# Altium schematic symbol library diode.SchLib: 129 symbols
Pins are listed as number, name and electrical type; pins without a type are passive.

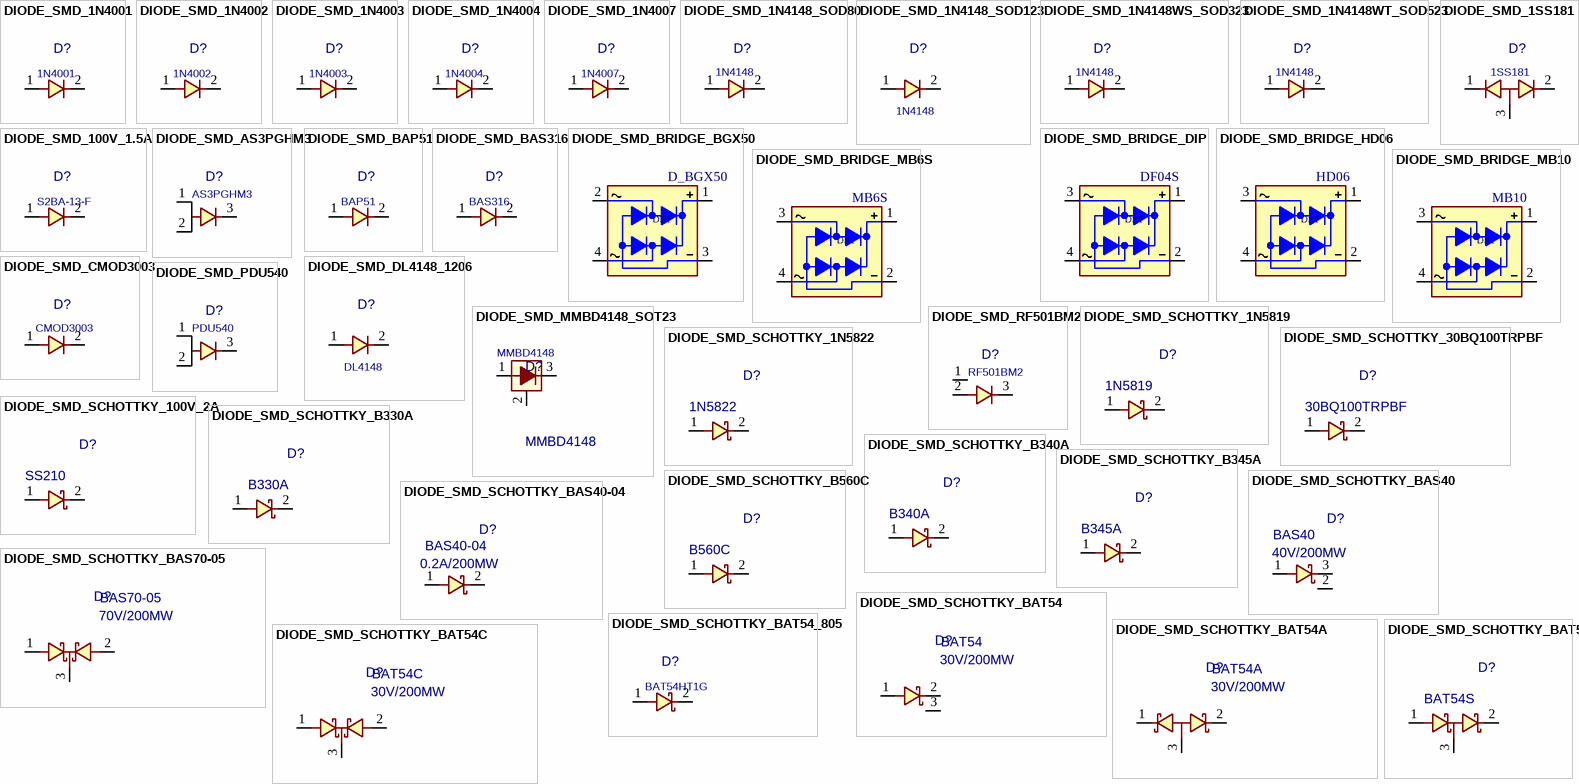
[diagram p0: symbols DIODE_SMD_1N4001 to DIODE_SMD_SCHOTTKY_BAT54S]

## DIODE_SMD_1N4001
designator D?, comment 1N4001
DIODE, GENERAL PURPOSE, 50V/1A; DESC: DESCRIPTION; PARAM: 50V VRRM; PARAM2: 1A; MANF: MANF; ASSEMBLY: ASSEMBLY; PRICE: PRICE; MANF_P#: 1N4001; VALUE: 1N4001
footprint D_SMA (SMA Molded Diode, 2-Leads, Body 4.3x2.7mm)
pins: 1, 2

## DIODE_SMD_1N4002
designator D?, comment 1N4002
DIODE, GENERAL PURPOSE, 100V/1A; DESC: DESCRIPTION; PARAM: 100V VRRM; PARAM2: 1A; MANF: MANF; ASSEMBLY: ASSEMBLY; PRICE: PRICE; MANF_P#: 1N4002; VALUE: 1N4002
footprint D_SMA (SMA Molded Diode, 2-Leads, Body 4.3x2.7mm)
pins: 1, 2

## DIODE_SMD_1N4003
designator D?, comment 1N4003
DIODE, GENERAL PURPOSE, 200V/1A; DESC: DESCRIPTION; PARAM: 200V VRRM; PARAM2: 1A; MANF: MANF; ASSEMBLY: ASSEMBLY; PRICE: PRICE; MANF_P#: 1N4003; VALUE: 1N4003
footprint D_SMA (SMA Molded Diode, 2-Leads, Body 4.3x2.7mm)
pins: 1, 2

## DIODE_SMD_1N4004
designator D?, comment 1N4004
DIODE, GENERAL PURPOSE, 400V/1A; DESC: DESCRIPTION; PARAM: 400V VRRM; PARAM2: 1A; MANF: MANF; ASSEMBLY: ASSEMBLY; PRICE: PRICE; MANF_P#: 1N4004; VALUE: 1N4004
footprint D_SMA (SMA Molded Diode, 2-Leads, Body 4.3x2.7mm)
pins: 1, 2

## DIODE_SMD_1N4007
designator D?, comment 1N4007
DIODE, GENERAL PURPOSE, 1000V/1A; MANF: Kingtronics; DESC: DESCRIPTION; PARAM: 1000V VRRM; PARAM2: 1A; MANF_P#: M7; ASSEMBLY: ASSEMBLY; PRICE: PRICE; VALUE: 1N4007
footprint D_SMA (SMA Molded Diode, 2-Leads, Body 4.3x2.7mm)
pins: 1, 2

## DIODE_SMD_1N4148_SOD80
designator D?, comment 1N4148
DIODE, FAST SWTICHING, 0.3A, 0.5W; DESC: DESCRIPTION; PARAM: 75V; PARAM2: 300mA, 0.5W; MANF: MANF; ASSEMBLY: ASSEMBLY; PRICE: PRICE; MANF_P#: 1N4148; VALUE: 1N4148
footprint D_SOD80 (SOD-80 MINI-MELF 3.6X1.6mm, LL-34, LL4148)
pins: 1, 2

## DIODE_SMD_1N4148_SOD123
designator D?, comment 1N4148
DIODE, FAST SWTICHING, SMD; DESC: DESCRIPTION; PARAM: 300mA; PARAM2: 100V, 460MW; MANF_P#: 1N4148W; MANF: DIODE; ASSEMBLY: ASSEMBLY; PRICE: PRICE; VALUE: 1N4148
footprint D_SOD123W (PowerDI-123, SOD123, DO-213AA, 1206D)
pins: 1, 2

## DIODE_SMD_1N4148WS_SOD323
designator D?, comment 1N4148
DIODE, FAST SWTICHING, 0.2A; MANF: Diodes; DESC: DESCRIPTION; PARAM: 200~300mA; PARAM2: 75V; MANF_P#: 1N4148WS; ASSEMBLY: ASSEMBLY; PRICE: 0.2$; VALUE: 1N4148
footprint D_SOD323 (DIODE0805, SOD-323, SC-76, DL-35, 0805 similar size)
pins: 1, 2

## DIODE_SMD_1N4148WT_SOD523
designator D?, comment 1N4148
DIODE, FAST SWTICHING, 0.2A; MANF: Diodes, MCC; DESC: DESCRIPTION; PARAM: 200~300mA; PARAM2: 75V; MANF_P#: 1N4148X-TP, 1N4148WT-7, 1N4148WTQ-7; ASSEMBLY: ASSEMBLY; PRICE: 0.2$; VALUE: 1N4148
footprint D_SOD523 (SOD523 SC-79 Molded Diode, 2-Leads, 1.2x0.8mm)
pins: 1, 2

## DIODE_SMD_1SS181
designator D?, comment 1SS181
DIODE, DUAL, HIGH SPEED SWITCHING, 80V, 0.1A; MANF: THOSHIBA; DESC: DESCRIPTION; ASSEMBLY: ASSEMBLY; PRICE: PRICE; PARAM: 80V; PARAM2: 0.1A; MANF_P#: 1SS181; VALUE: 1SS181
footprint SOT23_3 (SOT-23, Micro3, MO-178, TO-236AB, MO-193C, SuperSOT3, SC-59, DSO190_3_300X150)
pins: 1, 2, 3

## DIODE_SMD_100V_1.5A
designator D?, comment S2BA-13-F
DIODE, GENERAL PURPOSE, 100V, 1.5A, SMA; MANF: Diodes; DESC: DESCRIPTION; ASSEMBLY: ASSEMBLY; PRICE: PRICE; PARAM: 100V; PARAM2: 1.5A; MANF_P#: S2BA-13-F; VALUE: S2BA-13-F
footprint D_SMA (SMA Molded Diode, 2-Leads, Body 4.3x2.7mm)
pins: 1, 2

## DIODE_SMD_AS3PGHM3
designator D?, comment AS3PGHM3
DIODE, FAST, 3A, 400V; MANF: VISHAY; DESC: DESCRIPTION; PARAM: 3A, -55~175oC; MANF_P#: AS3PGHM3_A/H; ASSEMBLY: ASSEMBLY; PRICE: 1$; PARAM2: 400V; VALUE: AS3PGHM3
footprint D_SMPC (SMPC TO-277A, Body 6.1x4.6mm)
pins: 1 A1, 2 A2, 3 CATHODE

## DIODE_SMD_BAP51
designator D?, comment BAP51
DIODE, PIN, 50V/0.05A, SOD-323; MANF: NXP; DESC: A5 marking; PARAM: 50V VRRM, 1.1Vf; PARAM2: 0.05A, -65~150oC; MANF_P#: BAP51-03; ASSEMBLY: ASSEMBLY; PRICE: 0.4$; VALUE: BAP51
footprint D0805 (DIODE0805, SOD323 (PHILIPS), SC-76 (JEITA), DL-35)
pins: 1, 2

## DIODE_SMD_BAS316
designator D?, comment BAS316
DIODE, HiSP SW, 100V/0.25A, SOD-323; MANF: Nexperia; DESC: A6 marking; PARAM: 100V VRRM, 1.25Vf; PARAM2: 0.25A, -50~150oC; ASSEMBLY: ASSEMBLY; PRICE: 0.2$; MANF_P#: BAS316; VALUE: BAS316
footprint D0805 (DIODE0805, SOD323 (PHILIPS), SC-76 (JEITA), DL-35)
pins: 1, 2

## DIODE_SMD_BRIDGE_BGX50
designator DB?, comment D_BGX50
DIODE, BRIDGE, SMD, 50V, 140mA,; MANF: Infineon; MANF_P#: BGX50AE6327; PARAM: 50V, 140mA; VALUE: D_BGX50
footprint SOT143_4 (SC-74A , SOT143, TO-253A, DSO190_4_300X150, LAT-3/MMM168, MW-4)
pins: 1 DCOUT+, 2 ACIN1, 3 DCOUT-, 4 ACIN2

## DIODE_SMD_BRIDGE_DIP
designator DB?, comment DF04S
DIODE, BRIDGE,; VALUE: DF04S
footprint DBRG_DIPSMD (BRIDGE RECTIFIER, pitch: 5.08mm, 8X6mm, DB-S, DF005S)
pins: 1 DCOUT+, 2 DCOUT-, 3 ACIN2, 4 ACIN1

## DIODE_SMD_BRIDGE_HD06
designator DB?, comment HD06
DIODE, BRIDGE,; PARAM2: 600v; PARAM: 0.5A; MANF_P#: HD06; VALUE: HD06
footprint DBRG_DIPSMD_MINI (MDB, MBS, TO-269AA, pitch:2.54mm, 4.8x3.8mm)
pins: 1 DCOUT+, 2 DCOUT-, 3 ACIN2, 4 ACIN1

## DIODE_SMD_BRIDGE_MB6S
designator DB?, comment MB6S
DIODE, BRIDGE,; PARAM2: 600v; PARAM: 0.5A; MANF_P#: MB6S; VALUE: MB6S
footprint DBRG_DIPSMD_MINI (MDB, MBS, TO-269AA, pitch:2.54mm, 4.8x3.8mm)
pins: 1 DCOUT+, 2 DCOUT-, 3 ACIN2, 4 ACIN1

## DIODE_SMD_BRIDGE_MB10
designator DB?, comment MB10
DIODE, BRIDGE, SMD; MANF: MCC, DIODES; MANF_P#: MB10F, MB10S; PARAM2: 1000V; PARAM: 0.5A; VALUE: MB10
footprint DBRG_DIPSMD (BRIDGE RECTIFIER, pitch: 5.08mm, 8X6mm, DB-S, DF005S)
pins: 1 DCOUT+, 2 DCOUT-, 3 ACIN2, 4 ACIN1

## DIODE_SMD_CMOD3003
designator D?, comment CMOD3003
DIODE, FAST SWTICHING, 0.6A, 0.25W; MANF: CENTRAL SEMI; DESC: DESCRIPTION; PARAM: 180V; ASSEMBLY: ASSEMBLY; PRICE: PRICE; PARAM2: 0.6A, 0.25W; MANF_P#: CMOD3003; VALUE: CMOD3003
footprint D_SOD523 (SOD523 SC-79 Molded Diode, 2-Leads, 1.2x0.8mm)
pins: 1, 2

## DIODE_SMD_DL4148_1206
designator D?, comment DL4148
DIODE, FAST SWTICHING, SMD; DESC: DESCRIPTION; PARAM: 300mA; PARAM2: 100V, 460MW; MANF: MANF; ASSEMBLY: ASSEMBLY; PRICE: PRICE; MANF_P#: DL4148; VALUE: DL4148
footprint D1206 (SOD123, miniMELF, DO-213AA, MLL34, 320X160D)
pins: 1, 2

## DIODE_SMD_MMBD4148_SOT23
designator D?, comment MMBD4148
DIODE, FAST SWTICHING, SMT; MANF: Diodes, Inc.; PARAM: 75V; DESC: DESCRIPTION; PARAM2: 0.3A; MANF_P#: MMBD4148; ASSEMBLY: ASSEMBLY; PRICE: PRICE; VALUE: MMBD4148
footprint SOT23_3 (SOT-23, Micro3, MO-178, TO-236AB, MO-193C, SuperSOT3, SC-59, DSO190_3_300X150)
pins: 1, 2 NC, 3 CATHODE

## DIODE_SMD_PDU540
designator D?, comment PDU540
DIODE, FAST, 5A, 400V; MANF: DIODES; DESC: DESCRIPTION; PARAM: 5A, -65~175oC; MANF_P#: PDU540-13; ASSEMBLY: ASSEMBLY; PRICE: 1.2$; PARAM2: 400V; VALUE: PDU540
footprint D_SMPC (SMPC TO-277A, Body 6.1x4.6mm)
pins: 1 A1, 2 A2, 3 CATHODE

## DIODE_SMD_RF501BM2
designator D?, comment RF501BM2
DIODE, FAST, 5A, 200V; MANF: ROHM; DESC: DESCRIPTION; PARAM: 5A, -40~150oC; MANF_P#: RF501BM2STL; ASSEMBLY: ASSEMBLY; PRICE: 0.9$; PARAM2: 200V; VALUE: RF501BM2
footprint DPAK_3 (D-PAK (TO-252), 3-Pads, Body 6.2x6.7mm)
pins: 1 NC, 2 A, 3 CATHODE

## DIODE_SMD_SCHOTTKY_1N5819
designator D?, comment 1N5819
DIODE, SCHOTTKY, 40V, 1A; MANF: DIODES; MANF_P#: 1N5819HW-7-F; DESC: DESCRIPTION; ASSEMBLY: ASSEMBLY; PRICE: PRICE; PARAM2: 1A; PARAM: 40V; VALUE: 1N5819
footprint D_SOD123W (1206D, SOD123, miniMELF, DO-213AA, MLL34, 320X160D)
pins: 1, 2

## DIODE_SMD_SCHOTTKY_1N5822
designator D?, comment 1N5822
DIODE, SCHOTTKY, 40V, 3A; MANF: DIODES; DESC: DESCRIPTION; MANF_P#: 1N5822; ASSEMBLY: ASSEMBLY; PRICE: PRICE; PARAM2: 3A; PARAM: 40V; VALUE: 1N5822
footprint D_SMA (SMA Molded Diode, 2-Leads, Body 4.3x2.7mm)
pins: 1, 2

## DIODE_SMD_SCHOTTKY_30BQ100TRPBF
designator D?, comment 30BQ100TRPBF
DIODE, SCHOTTKY, 100V, 3A; MANF: Vishay; DESC: DESCRIPTION; MANF_P#: 30BQ100TRPBF; ASSEMBLY: ASSEMBLY; PRICE: PRICE; PARAM2: 3A; PARAM: 100V; VALUE: 30BQ100TRPBF
footprint D_SMC (SMC, Molded Diode, 7.0x6.0mm)
pins: 1, 2

## DIODE_SMD_SCHOTTKY_100V_2A
designator D?, comment SS210
DIODE, SCHOTTKY, 100V, 2A; MANF: Micro Commercial; MANF_P#: SS210-TP, 10MQ100NPBF; DESC: DESCRIPTION; ASSEMBLY: ASSEMBLY; PRICE: PRICE; PARAM2: 2A; PARAM: 100V; VALUE: SS210
footprint D_SMB (SMB Molded Diode, 2-Leads, Body 4.3x3.5mm)
pins: 1, 2

## DIODE_SMD_SCHOTTKY_B330A
designator D?, comment B330A
DIODE, SCHOTTKY, 30V, 3A; MANF: Diodes; MANF_P#: B330A-13-F; DESC: DESCRIPTION; PARAM2: 30Vr, 0.5Vf; ASSEMBLY: ASSEMBLY; PRICE: 0.46$; PARAM: 3A; VALUE: B330A
footprint D_SMA (SMA Molded Diode, 2-Leads, Body 4.3x2.7mm)
pins: 1, 2

## DIODE_SMD_SCHOTTKY_B340A
designator D?, comment B340A
DIODE, SCHOTTKY, 40V, 3A; MANF: DIODES; DESC: DESCRIPTION; MANF_P#: B340A; ASSEMBLY: ASSEMBLY; PRICE: PRICE; PARAM2: 3A; PARAM: 40V; VALUE: B340A
footprint D_SMA (SMA Molded Diode, 2-Leads, Body 4.3x2.7mm)
pins: 1, 2

## DIODE_SMD_SCHOTTKY_B345A
designator D?, comment B345A
DIODE, SCHOTTKY, 40V, 3A; MANF: DIODES; MANF_P#: B345AE-13; DESC: DESCRIPTION; PARAM2: 45Vrrm, 0.45Vf; PARAM: 3A, -50~150oC; ASSEMBLY: ASSEMBLY; PRICE: 0.35$; VALUE: B345A
footprint D_SMA (SMA Molded Diode, 2-Leads, Body 4.3x2.7mm)
pins: 1, 2

## DIODE_SMD_SCHOTTKY_B560C
designator D?, comment B560C
DIODE, SCHOTTKY, 40V, 3A; MANF: DIODES; MANF_P#: B560C-13-F; DESC: DESCRIPTION; PARAM2: 5A; PARAM: 60V; ASSEMBLY: ASSEMBLY; PRICE: PRICE; VALUE: B560C
footprint D_SMC (SMC, Molded Diode, 7.0x6.0mm)
pins: 1, 2

## DIODE_SMD_SCHOTTKY_BAS40
designator D?, comment PARAM: 40V/200MW  (hidden comment: BAS40)
DIODE, SCHOTTKY, DUAL, 40V, 0.2A; MANF: Diodes; DESC: DESCRIPTION; MANF_P#: BAS40; ASSEMBLY: ASSEMBLY; PRICE: PRICE; PARAM2: 0.2A; VALUE: BAS40
footprint SOT23_3 (SOT-23, Micro3, MO-178, TO-236AB, MO-193C, SuperSOT3, DSO190_3_300X150)
pins: 1, 2, 3

## DIODE_SMD_SCHOTTKY_BAS40-04
designator D?, comment PARAM: 0.2A/200MW  (hidden comment: BAS40-04)
DIODE, SCHOTTKY, 40V, 0.2A; MANF: Diodes; MANF_P#: BAS40-04-TP; DESC: DESCRIPTION; PARAM2: 40V, -55~125oC; ASSEMBLY: ASSEMBLY; PRICE: PRICE; VALUE: BAS40-04
footprint D_SMB (SMB Molded Diode, 2-Leads, Body 4.3x3.5mm)
pins: 1, 2

## DIODE_SMD_SCHOTTKY_BAS70-05
designator D?, comment PARAM: 70V/200MW  (hidden comment: BAS70-05)
DIODE, SCHOTTKY, DUAL, 70V, 0.07A; MANF: Diodes; MANF_P#: BAS70-05-7-F; DESC: DESCRIPTION; ASSEMBLY: ASSEMBLY; PRICE: PRICE; PARAM2: 0.07A; VALUE: BAS70-05
footprint SOT23_3 (SOT-23, Micro3, MO-178, TO-236AB, MO-193C, SuperSOT3, DSO190_3_300X150)
pins: 1, 2, 3

## DIODE_SMD_SCHOTTKY_BAT54
designator D?, comment PARAM: 30V/200MW  (hidden comment: BAT54)
DIODE, SCHOTTKY, 30V, 0.2A; MANF: Diodes; DESC: DESCRIPTION; MANF_P#: BAT54; ASSEMBLY: ASSEMBLY; PRICE: PRICE; PARAM2: 0.2A; VALUE: BAT54
footprint SOT23_3 (SOT-23, Micro3, MO-178, TO-236AB, MO-193C, SuperSOT3, DSO190_3_300X150)
pins: 1, 2, 3

## DIODE_SMD_SCHOTTKY_BAT54_805
designator D?, comment BAT54HT1G
DIODE, SCHOTTKY, 40V, 1A; MANF: Fairchild; DESC: DESCRIPTION; PARAM2: 0.2A; PARAM: 30V; ASSEMBLY: ASSEMBLY; PRICE: PRICE; MANF_P#: BAT54HT1G; VALUE: BAT54HT1G
footprint D0805 (DIODE0805, SOD323 (PHILIPS), SC-76 (JEITA), DL-35)
pins: 1, 2

## DIODE_SMD_SCHOTTKY_BAT54A
designator D?, comment PARAM: 30V/200MW  (hidden comment: BAT54A)
DIODE, SCHOTTKY, DUAL, 30V, 0.2A; MANF: Diodes; DESC: DESCRIPTION; MANF_P#: BAT54A; ASSEMBLY: ASSEMBLY; PRICE: PRICE; PARAM2: 0.2A; VALUE: BAT54A
footprint SOT23_3 (SOT-23, Micro3, MO-178, TO-236AB, MO-193C, SuperSOT3, DSO190_3_300X150)
pins: 1, 2, 3

## DIODE_SMD_SCHOTTKY_BAT54C
designator D?, comment PARAM: 30V/200MW  (hidden comment: BAT54C)
DIODE, SCHOTTKY, DUAL, 30V, 0.2A; MANF: Diodes; MANF_P#: BAT54C-7-F; DESC: DESCRIPTION; ASSEMBLY: ASSEMBLY; PRICE: PRICE; PARAM2: 0.2A; VALUE: BAT54C
footprint SOT23_3 (SOT-23, Micro3, MO-178, TO-236AB, MO-193C, SuperSOT3, DSO190_3_300X150)
pins: 1, 2, 3

## DIODE_SMD_SCHOTTKY_BAT54S
designator D?, comment BAT54S
DIODE, SCHOTTKY, DUAL, 30V, 0.2A; MANF: Diodes, NXP; MANF_P#: BAT54SW; DESC: DESCRIPTION; PARAM: 30V/200MW; ASSEMBLY: ASSEMBLY; PRICE: 0.2$; PARAM2: 0.2A; VALUE: BAT54S
footprint SOT23_3 (SOT-23, Micro3, MO-178, TO-236AB, MO-193C, SuperSOT3, DSO190_3_300X150)
pins: 1, 2, 3

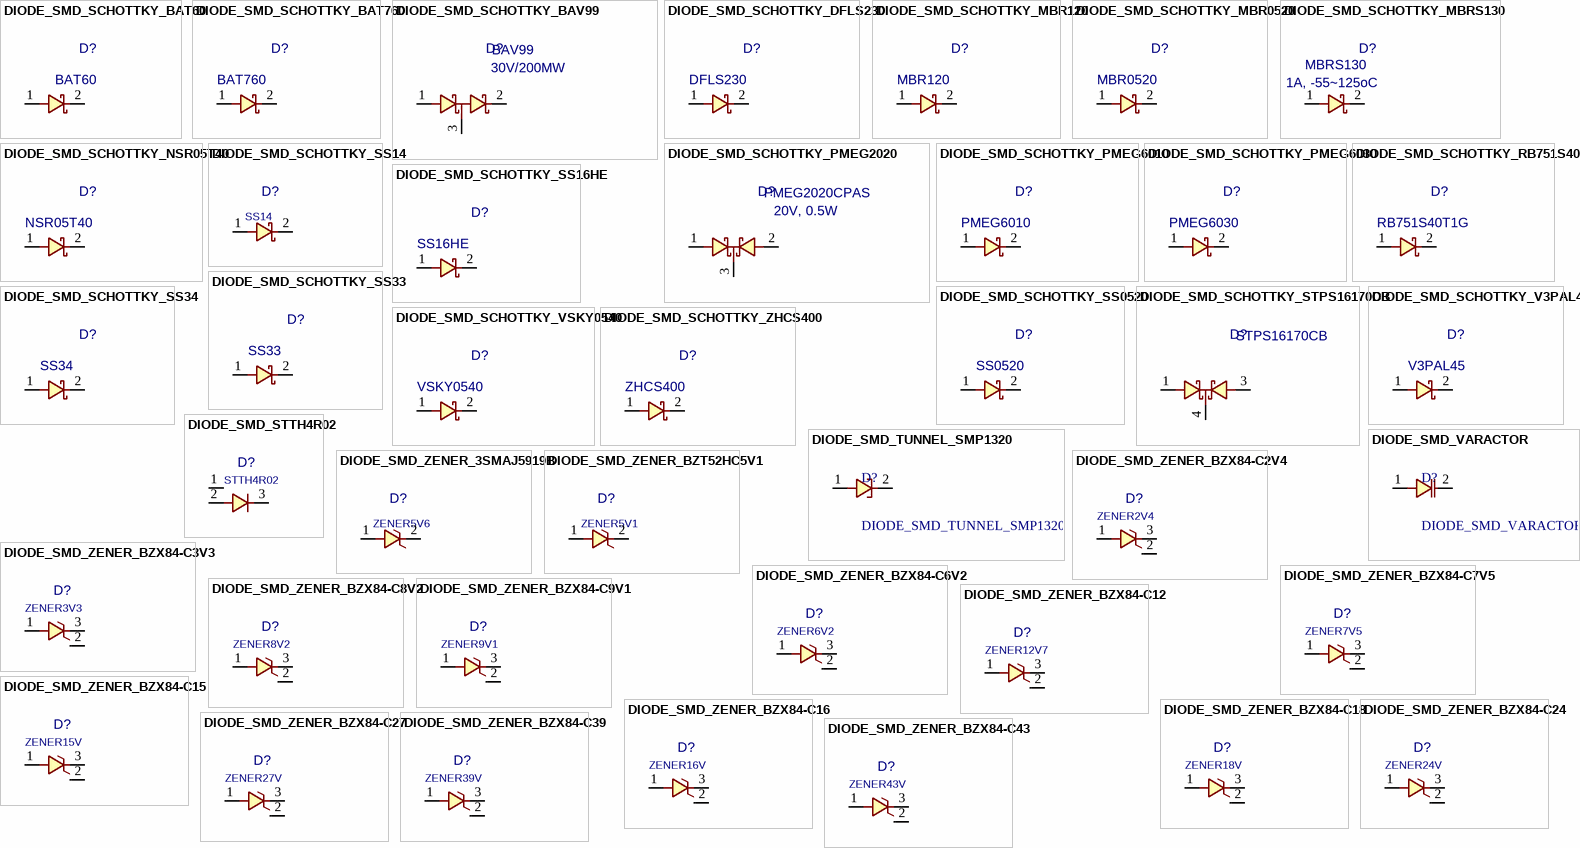
[diagram p1: symbols DIODE_SMD_SCHOTTKY_BAT60 to DIODE_SMD_ZENER_BZX84-C43]

## DIODE_SMD_SCHOTTKY_BAT60
designator D?, comment BAT60
DIODE, SCHOTTKY, 10V, 3A, 0.3Vf; MANF: Infineon; MANF_P#: BAT60AE6327HTSA1; DESC: DESCRIPTION; PARAM2: VFdrop: 0.1V@10mA, 0.22V@1A; PARAM: 3A, 1.35W, -55~85oC; ASSEMBLY: ASSEMBLY; PRICE: 0.4$; VALUE: BAT60
footprint D_SOD323 (DIODE0805, SOD-323, SC-76, DL-35, 0805 similar size)
pins: 1, 2

## DIODE_SMD_SCHOTTKY_BAT760
designator D?, comment BAT760
DIODE, SCHOTTKY, 20V, 1A; MANF: NXP; MANF_P#: BAT760,115; DESC: DESCRIPTION; ASSEMBLY: ASSEMBLY; PRICE: PRICE; PARAM2: 1A; PARAM: 20V; VALUE: BAT760
footprint D_SOD323 (DIODE0805, SOD-323, SC-76, DL-35, 0805 similar size)
pins: 1, 2

## DIODE_SMD_SCHOTTKY_BAV99
designator D?, comment PARAM: 30V/200MW  (hidden comment: BAV99)
DIODE, SCHOTTKY, DUAL, 30V, 0.2A; MANF: Diodes; DESC: DESCRIPTION; MANF_P#: BAV99; ASSEMBLY: ASSEMBLY; PRICE: PRICE; PARAM2: 0.2A; VALUE: BAV99
footprint SOT23_3 (SOT-23, Micro3, MO-178, TO-236AB, MO-193C, SuperSOT3, DSO190_3_300X150)
pins: 1, 2, 3

## DIODE_SMD_SCHOTTKY_DFLS230
designator D?, comment DFLS230
DIODE, SCHOTTKY, 30V, 2A; MANF: DIODES; MANF_P#: DFLS230LQ-7; DESC: DESCRIPTION; PARAM2: 30Vrrm, 0.375Vf; PARAM: 2A, -40~125oC; ASSEMBLY: ASSEMBLY; PRICE: 0.7$; VALUE: DFLS230
footprint D_SOD123W (1206D, SOD123, miniMELF, DO-213AA, MLL34, 320X160D)
pins: 1, 2

## DIODE_SMD_SCHOTTKY_MBR120
designator D?, comment MBR120
DIODE, SCHOTTKY, 20V, 1A; MANF: NXP; MANF_P#: MBR120LSFT1G; DESC: DESCRIPTION; ASSEMBLY: ASSEMBLY; PRICE: PRICE; PARAM2: 1A; PARAM: 20V; VALUE: MBR120
footprint D1206 (SOD123, miniMELF, DO-213AA, MLL34, 320X160D)
pins: 1, 2

## DIODE_SMD_SCHOTTKY_MBR0520
designator D?, comment MBR0520
DIODE, SCHOTTKY, 20V, 0.5A; MANF: ON; MANF_P#: MBR0520LT1G; DESC: DESCRIPTION; ASSEMBLY: ASSEMBLY; PRICE: PRICE; PARAM2: 0.5A; PARAM: 20V; VALUE: MBR0520
footprint D_SOD123W (1206D, SOD123, miniMELF, DO-213AA, MLL34, 320X160D)
pins: 1, 2

## DIODE_SMD_SCHOTTKY_MBRS130
designator D?, comment PARAM: 1A, -55~125oC  (hidden comment: MBRS130)
DIODE, SCHOTTKY, 30V, 1A; MANF: Vishay, Diodes; MANF_P#: MBRS130L; DESC: DESCRIPTION; ASSEMBLY: ASSEMBLY; PRICE: PRICE; PARAM2: 30V; VALUE: MBRS130
footprint D_SMB (SMB Molded Diode, 2-Leads, Body 4.3x3.5mm)
pins: 1, 2

## DIODE_SMD_SCHOTTKY_NSR05T40
designator D?, comment NSR05T40
DIODE, SCHOTTKY, 40V, 0.5A; MANF: ON Semiconductor; MANF_P#: NSR05T40P2T5G; DESC: DESCRIPTION; PARAM2: 40V, 0.58Vf; PARAM: 0.5A, -55~150oC; ASSEMBLY: ASSEMBLY; PRICE: 0.4$; VALUE: NSR05T40
footprint D_SOD923 (SOD-923 2-Leads, Body 0.60x.8mm)
pins: 1, 2

## DIODE_SMD_SCHOTTKY_PMEG2020
designator D?, comment PARAM: 20V, 0.5W  (hidden comment: PMEG2020CPAS)
DIODE, SCHOTTKY, DUAL, 0.4VF, 20V, 2A; MANF: NEXPERIA; DESC: DESCRIPTION; MANF_P#: PMEG2020CPAS; ASSEMBLY: ASSEMBLY; PRICE: PRICE; PARAM2: 2A; VALUE: PMEG2020CPAS
footprint DFN2020_3 (DFN2020D-3, SOT1061D, Body 2X2X0.65mm,)
pins: 1, 2, 3

## DIODE_SMD_SCHOTTKY_PMEG6010
designator D?, comment PMEG6010
DIODE, SCHOTTKY, 60V, 1A; MANF: NEXPERIA; MANF_P#: PMEG6010AESB; DESC: DESCRIPTION; PARAM2: 60Vrrm, 0.6Vf; PARAM: 1A, -65~150oC; ASSEMBLY: ASSEMBLY; PRICE: 0.4$; VALUE: PMEG6010
footprint D1006 (DIODE, CLP1006-2, 1X0.6mm)
pins: 1, 2

## DIODE_SMD_SCHOTTKY_PMEG6030
designator D?, comment PMEG6030
DIODE, SCHOTTKY, 60V, 3A; MANF: NEXPERIA; MANF_P#: PMEG6030EP; DESC: DESCRIPTION; PARAM2: 60Vrrm, 0.4Vf; PARAM: 3A, -65~150oC; ASSEMBLY: ASSEMBLY; PRICE: 0.4$; VALUE: PMEG6030
footprint D_SMA (SMA Molded Diode, 2-Leads, Body 4.3x2.7mm, SOD-128)
pins: 1, 2

## DIODE_SMD_SCHOTTKY_RB751S40
designator D?, comment RB751S40T1G
DIODE, SCHOTTKY, 40V, 0.03A; MANF: ON Semiconductor; DESC: DESCRIPTION; MANF_P#: RB751S40T1G; ASSEMBLY: ASSEMBLY; PRICE: PRICE; PARAM2: 0.03A; PARAM: 40V; VALUE: RB751S40T1G
footprint D_SOD523 (SOD523 SC-79 Molded Diode, 2-Leads, 1.2x0.8mm)
pins: 1, 2

## DIODE_SMD_SCHOTTKY_SS14
designator D?, comment SS14
DIODE, SCHOTTKY, 40V, 1A; MANF: Vishay; DESC: DESCRIPTION; MANF_P#: SS14-E3; ASSEMBLY: ASSEMBLY; PRICE: PRICE; PARAM2: 1A; PARAM: 40V; VALUE: SS14
footprint D_SMB (SMB Molded Diode, 2-Leads, Body 4.3x3.5mm)
pins: 1, 2

## DIODE_SMD_SCHOTTKY_SS16HE
designator D?, comment SS16HE
DIODE, SCHOTTKY, 60V, 1A; MANF: ON; DESC: DESCRIPTION; PARAM2: 60V, -55~150oC; MANF_P#: SS16HE; ASSEMBLY: ASSEMBLY; PRICE: 0.4$; PARAM: 1A; VALUE: SS16HE
footprint D_SOD323 (DIODE0805, SOD-323, SC-76, DL-35, 0805 similar size)
pins: 1, 2

## DIODE_SMD_SCHOTTKY_SS33
designator D?, comment SS33
DIODE, SCHOTTKY, 30V, 3A; MANF: VISHAY; MANF_P#: SS33HE3_A/H; DESC: DESCRIPTION; PARAM2: 30Vr, 0.5Vf; ASSEMBLY: ASSEMBLY; PRICE: 0.6$; PARAM: 3A; VALUE: SS33
footprint D_SMC (SMC, Molded Diode, 7.0x6.0mm)
pins: 1, 2

## DIODE_SMD_SCHOTTKY_SS34
designator D?, comment SS34
DIODE, SCHOTTKY, 20V, 3A; MANF: VISHAY; DESC: DESCRIPTION; MANF_P#: SS34; ASSEMBLY: ASSEMBLY; PRICE: PRICE; PARAM2: 3A; PARAM: 20V; VALUE: SS34
footprint D_SMB (SMB Molded Diode, 2-Leads, Body 4.3x3.5mm)
pins: 1, 2

## DIODE_SMD_SCHOTTKY_SS0520
designator D?, comment SS0520
DIODE, SCHOTTKY, 20V, 0.5A; MANF: Fairchild; DESC: DESCRIPTION; MANF_P#: SS0520; ASSEMBLY: ASSEMBLY; PRICE: PRICE; PARAM2: 0.5A; PARAM: 20V; VALUE: SS0520
footprint D_SOD123W (1206D, SOD123, miniMELF, DO-213AA, MLL34, 320X160D)
pins: 1, 2

## DIODE_SMD_SCHOTTKY_STPS16170CB
designator D?, comment STPS16170CB
DIODE, SCHOTTKY, DUAL, 170V, 2x8A; MANF: ST; DESC: DESCRIPTION; PARAM: 16A; MANF_P#: STPS16170CB; ASSEMBLY: ASSEMBLY; PRICE: 1$; PARAM2: 170v; VALUE: STPS16170CB
footprint DPAK_3 (D-PAK (TO-252), 3-Pads, Body 6.2x6.7mm)
pins: 1 A1, 3 A3, 4 CATHODE

## DIODE_SMD_SCHOTTKY_V3PAL45
designator D?, comment V3PAL45
DIODE, SCHOTTKY, 45V, 3A; MANF: VISHAY; MANF_P#: V3PAL45HM3_A/I; DESC: DESCRIPTION; PARAM2: 45Vr, 0.46Vf; PARAM: 3A, -40~150oC; ASSEMBLY: ASSEMBLY; PRICE: 0.6$; VALUE: V3PAL45
footprint D_SMB (SMB Molded Diode, 2-Leads, Body 4.3x3.5mm)
pins: 1, 2

## DIODE_SMD_SCHOTTKY_VSKY0540
designator D?, comment VSKY0540
DIODE, SCHOTTKY, 40V, 0.5A; MANF: Vishay; MANF_P#: VSKY05401006-G4-08; DESC: DESCRIPTION; PARAM2: 40Vrrm, 0.425Vf; PARAM: 0.5A, -65~150oC; ASSEMBLY: ASSEMBLY; PRICE: 0.4$; VALUE: VSKY0540
footprint D1006 (DIODE, CLP1006-2, 1X0.6mm)
pins: 1, 2

## DIODE_SMD_SCHOTTKY_ZHCS400
designator D?, comment ZHCS400
DIODE, SCHOTTKY, 40V, 0.4A; MANF: DIODES; MANF_P#: ZHCS400TA; DESC: DESCRIPTION; PARAM2: 0.4A, -55~150oC; ASSEMBLY: ASSEMBLY; PRICE: 0.4$; PARAM: 40V; VALUE: ZHCS400
footprint D_SOD323 (DIODE0805, SOD-323, SC-76, DL-35, 0805 similar size)
pins: 1, 2

## DIODE_SMD_STTH4R02
designator D?, comment STTH4R02
DIODE, FAST, 4A, 200V; MANF: ST; DESC: DESCRIPTION; PARAM: 4A, -40~175oC; MANF_P#: STTH4R02BY; ASSEMBLY: ASSEMBLY; PRICE: 0.8$; PARAM2: 200V; VALUE: STTH4R02
footprint DPAK_3 (D-PAK (TO-252), 3-Pads, Body 6.2x6.7mm)
pins: 1 NC, 2 A, 3 CATHODE

## DIODE_SMD_TUNNEL_SMP1320
designator D?
DIODE, SMD, TUNNEL; MANF_P#: SMP1320-079LF; MANF: Skyworks
footprint D_SOD523 (SOD523 SC-79 Molded Diode, 2-Leads, 1.2x0.8mm)
pins: 1, 2

## DIODE_SMD_VARACTOR
designator D?
Variable Capacitance Diode
footprint D0805 (DIODE0805, SOD323 (PHILIPS), SC-76 (JEITA), DL-35)
pins: 1, 2

## DIODE_SMD_ZENER_3SMAJ5919B
designator D?, comment ZENER5V6
DIODE, ZENER, 3W, 5.6V; MANF: MCC; DESC: DESCRIPTION; PARAM2: 0.5W, 2Ohm, 67mA, -55~150oC; MANF_P#: 3SMAJ5919B-TP; ASSEMBLY: ASSEMBLY; PRICE: 0.5$; PARAM: 5.6V; VALUE: ZENER5V6
footprint D_SMA (SMA Molded Diode, 2-Leads, Body 4.3x2.7mm)
pins: 1, 2

## DIODE_SMD_ZENER_BZT52HC5V1
designator D?, comment ZENER5V1
DIODE, ZENER, 1W, 5.1V; MANF: Diodes; DESC: DESCRIPTION; PARAM2: 1W, 4Ohm, -55~150oC; MANF_P#: BZT52HC5V1WF-7; ASSEMBLY: ASSEMBLY; PRICE: 0.25$; PARAM: 5.1V; VALUE: ZENER5V1
footprint D_SOD123W (1206D, SOD123, miniMELF, DO-213AA, MLL34, 320X160D)
pins: 1, 2

## DIODE_SMD_ZENER_BZX84-C2V4
designator D?, comment ZENER2V4
DIODE, ZENER, 0.25W, 2.4V; MANF: NXP; DESC: DESCRIPTION; PARAM2: 2.4V, 0.9VF; PARAM: 0.25W, 10mA IF; MANF_P#: BZX84-C2V4; ASSEMBLY: ASSEMBLY; PRICE: PRICE; VALUE: ZENER2V4
footprint SOT23_3 (SOT-23, Micro3, MO-178, TO-236AB, MO-193C, SuperSOT3, SC-59, 1.9mm pitch 3X1.5mm body)
pins: 1, 2, 3

## DIODE_SMD_ZENER_BZX84-C3V3
designator D?, comment ZENER3V3
DIODE, ZENER, 0.25W, 3.3V; MANF: NXP; DESC: DESCRIPTION; PARAM2: 3.3V, 0.9VF; PARAM: 0.25W, 10mA IF; MANF_P#: BZX84-C3V3; ASSEMBLY: ASSEMBLY; PRICE: PRICE; VALUE: ZENER3V3
footprint SOT23_3 (SOT-23, Micro3, MO-178, TO-236AB, MO-193C, SuperSOT3, SC-59, 1.9mm pitch 3X1.5mm body)
pins: 1, 2, 3

## DIODE_SMD_ZENER_BZX84-C6V2
designator D?, comment ZENER6V2
DIODE, ZENER, 0.25W, 6.2V; MANF: NXP; DESC: DESCRIPTION; PARAM2: 6.2V, 0.9VF; PARAM: 0.25W, 10mA IF; MANF_P#: BZX84-C6V2; ASSEMBLY: ASSEMBLY; PRICE: PRICE; VALUE: ZENER6V2
footprint SOT23_3 (SOT-23, Micro3, MO-178, TO-236AB, MO-193C, SuperSOT3, SC-59, 1.9mm pitch 3X1.5mm body)
pins: 1, 2, 3

## DIODE_SMD_ZENER_BZX84-C7V5
designator D?, comment ZENER7V5
DIODE, ZENER, 0.25W, 7.5V; MANF: NXP; DESC: DESCRIPTION; PARAM2: 7.5V, 0.9VF; PARAM: 0.25W, 10mA IF; MANF_P#: BZX84-C7V5; ASSEMBLY: ASSEMBLY; PRICE: PRICE; VALUE: ZENER7V5
footprint SOT23_3 (SOT-23, Micro3, MO-178, TO-236AB, MO-193C, SuperSOT3, SC-59, 1.9mm pitch 3X1.5mm body)
pins: 1, 2, 3

## DIODE_SMD_ZENER_BZX84-C8V2
designator D?, comment ZENER8V2
DIODE, ZENER, 0.25W, 8.2V; MANF: NXP; DESC: DESCRIPTION; PARAM2: 8.2V, 0.9VF; PARAM: 0.25W, 10mA IF; MANF_P#: BZX84-C8V2; ASSEMBLY: ASSEMBLY; PRICE: PRICE; VALUE: ZENER8V2
footprint SOT23_3 (SOT-23, Micro3, MO-178, TO-236AB, MO-193C, SuperSOT3, SC-59, 1.9mm pitch 3X1.5mm body)
pins: 1, 2, 3

## DIODE_SMD_ZENER_BZX84-C9V1
designator D?, comment ZENER9V1
DIODE, ZENER, 0.25W, 9.1V; MANF: NXP; DESC: DESCRIPTION; PARAM2: 9.1V, 0.9VF; PARAM: 0.25W, 10mA IF; MANF_P#: BZX84-C9V1; ASSEMBLY: ASSEMBLY; PRICE: PRICE; VALUE: ZENER9V1
footprint SOT23_3 (SOT-23, Micro3, MO-178, TO-236AB, MO-193C, SuperSOT3, SC-59, 1.9mm pitch 3X1.5mm body)
pins: 1, 2, 3

## DIODE_SMD_ZENER_BZX84-C12
designator D?, comment ZENER12V7
DIODE, ZENER, 0.25W, 12.7V; MANF: NXP; DESC: DESCRIPTION; PARAM2: 12.7V, 0.9VF; PARAM: 0.25W, 10mA IF; MANF_P#: BZX84-C12; ASSEMBLY: ASSEMBLY; PRICE: PRICE; VALUE: ZENER12V7
footprint SOT23_3 (SOT-23, Micro3, MO-178, TO-236AB, MO-193C, SuperSOT3, SC-59, 1.9mm pitch 3X1.5mm body)
pins: 1, 2, 3

## DIODE_SMD_ZENER_BZX84-C15
designator D?, comment ZENER15V
DIODE, ZENER, 0.25W, 15V; MANF: NXP; DESC: DESCRIPTION; PARAM2: 15V, 0.9VF; PARAM: 0.25W, 10mA IF; MANF_P#: BZX84-C15; ASSEMBLY: ASSEMBLY; PRICE: PRICE; VALUE: ZENER15V
footprint SOT23_3 (SOT-23, Micro3, MO-178, TO-236AB, MO-193C, SuperSOT3, SC-59, 1.9mm pitch 3X1.5mm body)
pins: 1, 2, 3

## DIODE_SMD_ZENER_BZX84-C16
designator D?, comment ZENER16V
DIODE, ZENER, 0.25W, 16V; MANF: NXP; DESC: DESCRIPTION; PARAM2: 16V, 0.9VF; PARAM: 0.25W, 10mA IF; MANF_P#: BZX84-C16; ASSEMBLY: ASSEMBLY; PRICE: PRICE; VALUE: ZENER16V
footprint SOT23_3 (SOT-23, Micro3, MO-178, TO-236AB, MO-193C, SuperSOT3, SC-59, 1.9mm pitch 3X1.5mm body)
pins: 1, 2, 3

## DIODE_SMD_ZENER_BZX84-C18
designator D?, comment ZENER18V
DIODE, ZENER, 0.25W, 18V; MANF: NXP; DESC: DESCRIPTION; PARAM2: 18V, 0.9VF; PARAM: 0.25W, 10mA IF; MANF_P#: BZX84-C18; ASSEMBLY: ASSEMBLY; PRICE: PRICE; VALUE: ZENER18V
footprint SOT23_3 (SOT-23, Micro3, MO-178, TO-236AB, MO-193C, SuperSOT3, SC-59, 1.9mm pitch 3X1.5mm body)
pins: 1, 2, 3

## DIODE_SMD_ZENER_BZX84-C24
designator D?, comment ZENER24V
DIODE, ZENER, 0.25W, 24V; MANF: NXP; DESC: DESCRIPTION; PARAM2: 24V, 0.9VF; PARAM: 0.25W, 10mA IF; MANF_P#: BZX84-C24; ASSEMBLY: ASSEMBLY; PRICE: PRICE; VALUE: ZENER24V
footprint SOT23_3 (SOT-23, Micro3, MO-178, TO-236AB, MO-193C, SuperSOT3, SC-59, 1.9mm pitch 3X1.5mm body)
pins: 1, 2, 3

## DIODE_SMD_ZENER_BZX84-C27
designator D?, comment ZENER27V
DIODE, ZENER, 0.25W, 27V; MANF: NXP; DESC: DESCRIPTION; PARAM2: 27V, 0.9VF; PARAM: 0.25W, 10mA IF; MANF_P#: BZX84-C27; ASSEMBLY: ASSEMBLY; PRICE: PRICE; VALUE: ZENER27V
footprint SOT23_3 (SOT-23, Micro3, MO-178, TO-236AB, MO-193C, SuperSOT3, SC-59, 1.9mm pitch 3X1.5mm body)
pins: 1, 2, 3

## DIODE_SMD_ZENER_BZX84-C39
designator D?, comment ZENER39V
DIODE, ZENER, 0.25W, 39V; MANF: NXP; DESC: DESCRIPTION; PARAM2: 39V, 0.9VF; PARAM: 0.25W, 10mA IF; MANF_P#: BZX84-C39; ASSEMBLY: ASSEMBLY; PRICE: PRICE; VALUE: ZENER39V
footprint SOT23_3 (SOT-23, Micro3, MO-178, TO-236AB, MO-193C, SuperSOT3, SC-59, 1.9mm pitch 3X1.5mm body)
pins: 1, 2, 3

## DIODE_SMD_ZENER_BZX84-C43
designator D?, comment ZENER43V
DIODE, ZENER, 0.25W, 43V; MANF: NXP; DESC: DESCRIPTION; PARAM2: 43V, 0.9VF; PARAM: 0.25W, 10mA IF; MANF_P#: BZX84-C43; ASSEMBLY: ASSEMBLY; PRICE: PRICE; VALUE: ZENER43V
footprint SOT23_3 (SOT-23, Micro3, MO-178, TO-236AB, MO-193C, SuperSOT3, SC-59, 1.9mm pitch 3X1.5mm body)
pins: 1, 2, 3

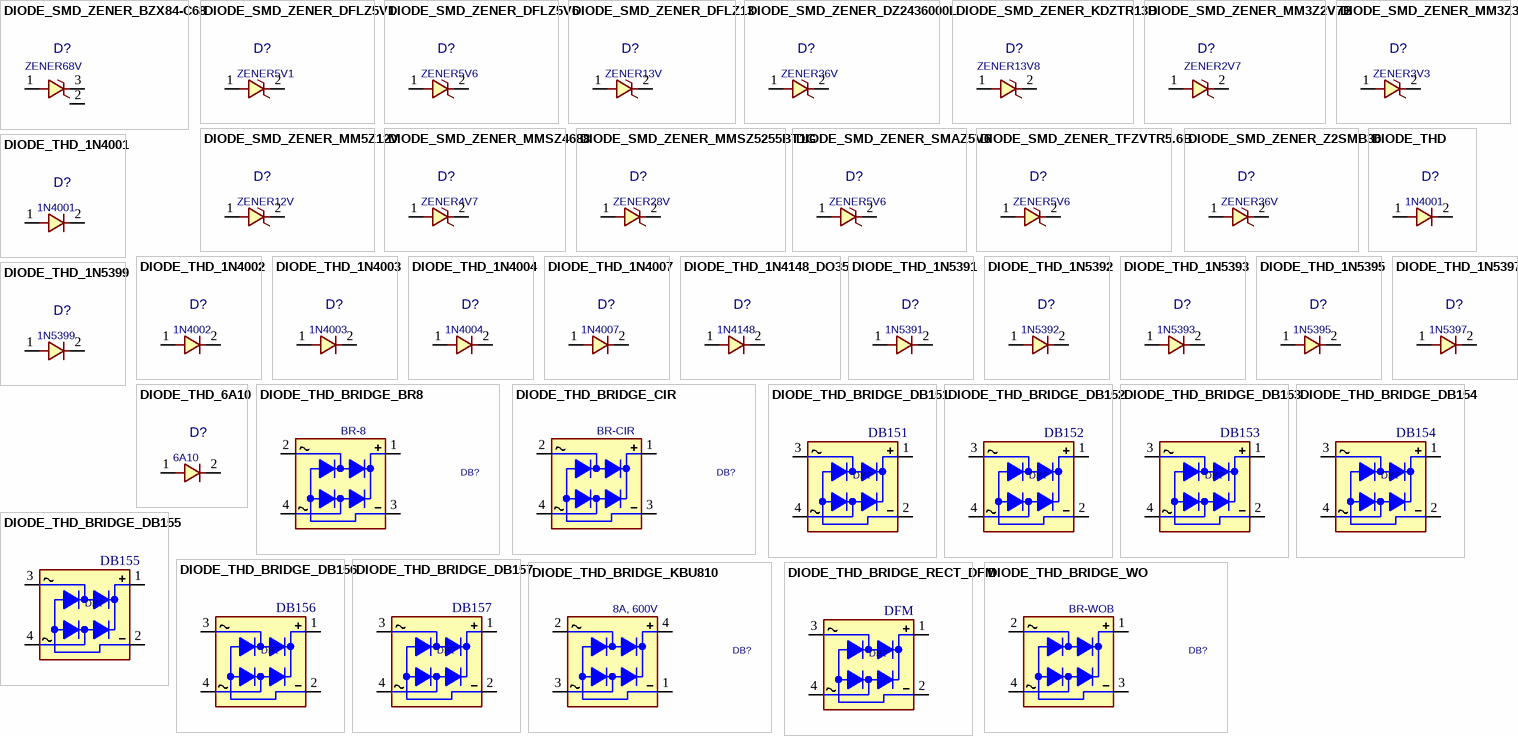
[diagram p2: symbols DIODE_SMD_ZENER_BZX84-C68 to DIODE_THD_BRIDGE_WO]

## DIODE_SMD_ZENER_BZX84-C68
designator D?, comment ZENER68V
DIODE, ZENER, 0.25W, 68V; MANF: NXP; DESC: DESCRIPTION; PARAM2: 68V, 0.9VF; PARAM: 0.25W, 10mA IF; MANF_P#: BZX84-C68; ASSEMBLY: ASSEMBLY; PRICE: PRICE; VALUE: ZENER68V
footprint SOT23_3 (SOT-23, Micro3, MO-178, TO-236AB, MO-193C, SuperSOT3, SC-59, 1.9mm pitch 3X1.5mm body)
pins: 1, 2, 3

## DIODE_SMD_ZENER_DFLZ5V1
designator D?, comment ZENER5V1
DIODE, ZENER, 1W, 5.1V; MANF: Diodes; DESC: DESCRIPTION; PARAM2: 1W, 4Ohm, -55~150oC; MANF_P#: DFLZ5V1-7; ASSEMBLY: ASSEMBLY; PRICE: 0.5$; PARAM: 5.1V; VALUE: ZENER5V1
footprint D_SOD123W (1206D, SOD123, miniMELF, DO-213AA, MLL34, 320X160D)
pins: 1, 2

## DIODE_SMD_ZENER_DFLZ5V6
designator D?, comment ZENER5V6
DIODE, ZENER, 1W, 5.1V; MANF: Diodes; DESC: DESCRIPTION; PARAM2: 1W, 4Ohm, -55~150oC; PARAM: 5.6V; MANF_P#: DFLZ5V6-7; ASSEMBLY: ASSEMBLY; PRICE: 0.5$; VALUE: ZENER5V6
footprint D_SOD123W (1206D, SOD123, miniMELF, DO-213AA, MLL34, 320X160D)
pins: 1, 2

## DIODE_SMD_ZENER_DFLZ13
designator D?, comment ZENER13V
DIODE, ZENER, 1W, 13V; MANF: Diodes; DESC: DESCRIPTION; PARAM2: 1W, 10Ohm, -55~150oC; MANF_P#: DFLZ13-7, DFLZ13Q-7; ASSEMBLY: ASSEMBLY; PRICE: 0.5$; PARAM: 13V; VALUE: ZENER13V
footprint D_SOD123W (1206D, SOD123, miniMELF, DO-213AA, MLL34, 320X160D)
pins: 1, 2

## DIODE_SMD_ZENER_DZ2436000L
designator D?, comment ZENER36V
DIODE, ZENER, 2W, 36V; MANF: Panasonic; DESC: DESCRIPTION; PARAM: 2W, 38Ohm, -50~150°C; MANF_P#: DZ2436000L; ASSEMBLY: ASSEMBLY; PRICE: 0.6$; PARAM2: 36V; VALUE: ZENER36V
footprint D_SMA (SMA Molded Diode, 2-Leads, Body 4.3x2.7mm)
pins: 1, 2

## DIODE_SMD_ZENER_KDZTR13B
designator D?  value ZENER13V8  (hidden comment: DIODE_SMD_ZENER_KDZTR13B)
DIODE, ZENER, 1W, 13.8V; MANF: ROHM; DESC: DESCRIPTION; PARAM2: 1W; ASSEMBLY: ASSEMBLY; PRICE: PRICE; PARAM: 13.8V
footprint D1206 (SOD123, miniMELF, DO-213AA, MLL34, 320X160D)
pins: 1, 2

## DIODE_SMD_ZENER_MM3Z2V7B
designator D?  value ZENER2V7  (hidden comment: DIODE_SMD_ZENER_MM3Z2V7B)
DIODE, ZENER, 0.2W, 2.7V; MANF: Fairchild; DESC: DESCRIPTION; PRICE: 0.036; MANF_P#: MM3Z2V7B; ASSEMBLY: ASSEMBLY; PARAM2: 0.2W; PARAM: 2.7V
footprint D0805 (DIODE0805, SOD323 (PHILIPS), SC-76 (JEITA), DL-35)
pins: 1, 2

## DIODE_SMD_ZENER_MM3Z3V3
designator D?, comment ZENER3V3
DIODE, ZENER, 0.2W, 3.3V; MANF: ON Semiconductor; DESC: DESCRIPTION; PARAM: 15V; MANF_P#: MM3Z3V3ST1G; ASSEMBLY: ASSEMBLY; PRICE: PRICE; PARAM2: 0.2W; VALUE: ZENER3V3
footprint D0805 (DIODE0805, SOD323 (PHILIPS), SC-76 (JEITA), DL-35)
pins: 1, 2

## DIODE_SMD_ZENER_MM5Z12V
designator D?, comment ZENER12V
DIODE, ZENER, 0.2W, 12V; MANF: Fairchild; DESC: DESCRIPTION; MANF_P#: MM5Z12V; ASSEMBLY: ASSEMBLY; PRICE: PRICE; PARAM2: 0.2W; PARAM: 12V; VALUE: ZENER12V
footprint D_SOD523 (SOD523 SC-79 Molded Diode, 2-Leads, 1.2x0.8mm)
pins: 1, 2

## DIODE_SMD_ZENER_MMSZ4688
designator D?, comment ZENER4V7
DIODE, ZENER, 0.5W, 4.7V; MANF: Fairchild; DESC: DESCRIPTION; MANF_P#: MMSZ4688; ASSEMBLY: ASSEMBLY; PRICE: PRICE; PARAM2: 0.5W; PARAM: 4.7V; VALUE: ZENER4V7
footprint D_SOD123W (1206D, SOD123, miniMELF, DO-213AA, MLL34, 320X160D)
pins: 1, 2

## DIODE_SMD_ZENER_MMSZ5255BT1G
designator D?, comment ZENER28V
DIODE, ZENER, 0.5W, 28V; MANF: ON Semiconductor; DESC: DESCRIPTION; MANF_P#: MMSZ5255BT1G; ASSEMBLY: ASSEMBLY; PRICE: PRICE; PARAM2: 0.5W; PARAM: 28V; VALUE: ZENER28V
footprint D_SOD123W (1206D, SOD123, miniMELF, DO-213AA, MLL34, 320X160D)
pins: 1, 2

## DIODE_SMD_ZENER_SMAZ5V6
designator D?, comment ZENER5V6
DIODE, ZENER, 1W, 5.6V; MANF: Diodes; DESC: DESCRIPTION; PARAM2: 1W, 2Ohm, -55~150oC; MANF_P#: SMAZ5V6-13-F; ASSEMBLY: ASSEMBLY; PRICE: 0.5$; PARAM: 5.6V; VALUE: ZENER5V6
footprint D_SMA (SMA Molded Diode, 2-Leads, Body 4.3x2.7mm)
pins: 1, 2

## DIODE_SMD_ZENER_TFZVTR5.6B
designator D?, comment ZENER5V6
DIODE, ZENER, 0.5W, 5.6V; MANF: ROHM; DESC: DESCRIPTION; PARAM2: 0.5W, 13Ohm, 20mA, -55~150oC; MANF_P#: TFZVTR5.6B; ASSEMBLY: ASSEMBLY; PRICE: 0.3$; PARAM: 5.6V; VALUE: ZENER5V6
footprint D0805 (DIODE0805, SOD323 (PHILIPS), SC-76 (JEITA), DL-35)
pins: 1, 2

## DIODE_SMD_ZENER_Z2SMB36
designator D?, comment ZENER36V
DIODE, ZENER, 2W, 36V; MANF: Diotec; DESC: DESCRIPTION; PARAM: 2W, 16Ohm, -50~150°C; MANF_P#: Z2SMB36; ASSEMBLY: ASSEMBLY; PRICE: -; PARAM2: 36V; VALUE: ZENER36V
footprint D_SMB (SMB Molded Diode, 2-Leads, Body 4.3x3.5mm)
pins: 1, 2

## DIODE_THD
designator D?, comment 1N4001
DIODE, THD; DESC: DESCRIPTION; PARAM: 100V; PARAM2: 1A; MANF: MANF; ASSEMBLY: ASSEMBLY; PRICE: PRICE; MANF_P#: 1N4001; VALUE: 1N4001
footprint D_AX04_DO41 (DO-41)
footprint D_AX03_DO35
footprint D_AX06_DO27 (A-500 (Vishay)  DO201A DO-27)
footprint D_AX06_SOD64 (SOD-64)
footprint D_AX07_DO27 (DO-201AD, DO-27)
pins: 1, 2

## DIODE_THD_1N4001
designator D?, comment 1N4001
DIODE, GENERAL PURPOSE, 50V/1A; DESC: DESCRIPTION; PARAM: 50V; PARAM2: 1A; MANF: MANF; ASSEMBLY: ASSEMBLY; PRICE: PRICE; MANF_P#: 1N4001; VALUE: 1N4001
footprint D_AX04_DO41 (DO-41)
pins: 1, 2

## DIODE_THD_1N4002
designator D?, comment 1N4002
DIODE, GENERAL PURPOSE, 100V/1A; DESC: DESCRIPTION; PARAM: 100V; PARAM2: 1A; MANF: MANF; ASSEMBLY: ASSEMBLY; PRICE: PRICE; MANF_P#: 1N4002; VALUE: 1N4002
footprint D_AX04_DO41 (DO-41)
pins: 1, 2

## DIODE_THD_1N4003
designator D?, comment 1N4003
DIODE, GENERAL PURPOSE, 200V/1A; DESC: DESCRIPTION; PARAM: 200V; PARAM2: 1A; MANF: MANF; ASSEMBLY: ASSEMBLY; PRICE: PRICE; MANF_P#: 1N4003; VALUE: 1N4003
footprint D_AX04_DO41 (DO-41)
pins: 1, 2

## DIODE_THD_1N4004
designator D?, comment 1N4004
DIODE, GENERAL PURPOSE, 400V/1A; DESC: DESCRIPTION; PARAM: 400V; PARAM2: 1A; MANF: MANF; ASSEMBLY: ASSEMBLY; PRICE: PRICE; MANF_P#: 1N4004; VALUE: 1N4004
footprint D_AX04_DO41 (DO-41)
pins: 1, 2

## DIODE_THD_1N4007
designator D?, comment 1N4007
DIODE, GENERAL PURPOSE, 1000V/1A; MANF: Diodes; DESC: DESCRIPTION; PARAM: 1000V, 1.15V; PARAM2: 1.5A; ASSEMBLY: ASSEMBLY; PRICE: PRICE; MANF_P#: 1N4007; VALUE: 1N4007
footprint D_AX04_DO41 (DO-41)
footprint D_AX03_1WS (DIODE 0.3 INCH SPACING 1W STAND)
pins: 1, 2

## DIODE_THD_1N4148_DO35
designator D?, comment 1N4148
DIODE, FAST SWTICHING, THD; DESC: DESCRIPTION; PARAM: 75V; PARAM2: 0.3A; MANF: MANF; ASSEMBLY: ASSEMBLY; PRICE: PRICE; MANF_P#: 1N4148; VALUE: 1N4148
footprint D_AX02_DO35 (DIODE 0.2 INCH SPACING DO-35)
pins: 1, 2

## DIODE_THD_1N5391
designator D?, comment 1N5391
DIODE, GENERAL PURPOSE, 50V/1.5A; DESC: DESCRIPTION; PARAM: 50V; PARAM2: 1.5A; MANF: MANF; ASSEMBLY: ASSEMBLY; PRICE: PRICE; MANF_P#: 1N5391; VALUE: 1N5391
footprint D_AX04_DO41 (DO-41)
pins: 1, 2

## DIODE_THD_1N5392
designator D?, comment 1N5392
DIODE, GENERAL PURPOSE, 100V/1.5A; DESC: DESCRIPTION; PARAM: 100V; PARAM2: 1.5A; MANF: MANF; ASSEMBLY: ASSEMBLY; PRICE: PRICE; MANF_P#: 1N5392; VALUE: 1N5392
footprint D_AX04_DO41 (DO-41)
pins: 1, 2

## DIODE_THD_1N5393
designator D?, comment 1N5393
DIODE, GENERAL PURPOSE, 200V/1.5A; DESC: DESCRIPTION; PARAM: 200V; PARAM2: 1.5A; MANF: MANF; ASSEMBLY: ASSEMBLY; PRICE: PRICE; MANF_P#: 1N5393; VALUE: 1N5393
footprint D_AX04_DO41 (DO-41)
pins: 1, 2

## DIODE_THD_1N5395
designator D?, comment 1N5395
DIODE, GENERAL PURPOSE, 400V/1.5A; DESC: DESCRIPTION; PARAM: 400V; PARAM2: 1.5A; MANF: MANF; ASSEMBLY: ASSEMBLY; PRICE: PRICE; MANF_P#: 1N5395; VALUE: 1N5395
footprint D_AX04_DO41 (DO-41)
pins: 1, 2

## DIODE_THD_1N5397
designator D?, comment 1N5397
DIODE, GENERAL PURPOSE, 600V/1.5A; DESC: DESCRIPTION; PARAM: 600V; PARAM2: 1.5A; MANF: MANF; ASSEMBLY: ASSEMBLY; PRICE: PRICE; MANF_P#: 1N5397; VALUE: 1N5397
footprint D_AX04_DO41 (DO-41)
pins: 1, 2

## DIODE_THD_1N5399
designator D?, comment 1N5399
DIODE, GENERAL PURPOSE, 1000V/1.5A; DESC: DESCRIPTION; PARAM: 1000V; PARAM2: 1.5A; MANF: MANF; ASSEMBLY: ASSEMBLY; PRICE: PRICE; MANF_P#: 1N5399; VALUE: 1N5399
footprint D_AX04_DO41 (DO-41)
pins: 1, 2

## DIODE_THD_6A10
designator D?, comment 6A10
DIODE, GENERAL PURPOSE, 1000V/6A; MANF: EIC; DESC: DESCRIPTION; PARAM: 1000V, 1V; PARAM2: 6A; ASSEMBLY: ASSEMBLY; PRICE: PRICE; MANF_P#: 6A10; VALUE: 6A10
footprint D_AX07_P600 (DIODE 0.7 INCH SPACING, P600, 9mm width)
pins: 1, 2

## DIODE_THD_BRIDGE_BR8
designator DB?, comment BR-8
DIODE, BRIDGE, 8A, 600V; VALUE: BR-8
footprint DBRG_S20 (BRIDGE RECTIFIER, pitch: 12.7mm, 20X20mm)
pins: 1 +DC, 2 AC1, 3 -DC, 4 AC2

## DIODE_THD_BRIDGE_CIR
designator DB?, comment BR-CIR
DIODE, BRIDGE,; VALUE: BR-CIR
footprint DBRG_C8 (BRDIGE RECTIFIER, pitch: 4.7mm, 8X8mm)
pins: 1 +DC, 2 AC1, 3 -DC, 4 AC2

## DIODE_THD_BRIDGE_DB151
designator DB?, comment DB151
DIODE, BRIDGE,; MANF: SECOS; PARAM2: 50V; PARAM: 1.5A; MANF_P#: DB151; VALUE: DB151
footprint DBRG_DIP (BRDIGE RECTIFIER, pitch: 5.08mm, 8X5mm)
pins: 1 DCOUT+, 2 DCOUT-, 3 ACIN2, 4 ACIN1

## DIODE_THD_BRIDGE_DB152
designator DB?, comment DB152
DIODE, BRIDGE,; MANF: SECOS; PARAM2: 100V; PARAM: 1.5A; MANF_P#: DB152; VALUE: DB152
footprint DBRG_DIP (BRDIGE RECTIFIER, pitch: 5.08mm, 8X5mm)
pins: 1 DCOUT+, 2 DCOUT-, 3 ACIN2, 4 ACIN1

## DIODE_THD_BRIDGE_DB153
designator DB?, comment DB153
DIODE, BRIDGE,; MANF: SECOS; PARAM2: 200V; PARAM: 1.5A; MANF_P#: DB153; VALUE: DB153
footprint DBRG_DIP (BRDIGE RECTIFIER, pitch: 5.08mm, 8X5mm)
pins: 1 DCOUT+, 2 DCOUT-, 3 ACIN2, 4 ACIN1

## DIODE_THD_BRIDGE_DB154
designator DB?, comment DB154
DIODE, BRIDGE,; MANF: SECOS; PARAM2: 400V; PARAM: 1.5A; MANF_P#: DB154; VALUE: DB154
footprint DBRG_DIP (BRDIGE RECTIFIER, pitch: 5.08mm, 8X5mm)
pins: 1 DCOUT+, 2 DCOUT-, 3 ACIN2, 4 ACIN1

## DIODE_THD_BRIDGE_DB155
designator DB?, comment DB155
DIODE, BRIDGE,; MANF: SECOS; PARAM2: 600V; PARAM: 1.5A; MANF_P#: DB155; VALUE: DB155
footprint DBRG_DIP (BRDIGE RECTIFIER, pitch: 5.08mm, 8X5mm)
pins: 1 DCOUT+, 2 DCOUT-, 3 ACIN2, 4 ACIN1

## DIODE_THD_BRIDGE_DB156
designator DB?, comment DB156
DIODE, BRIDGE,; MANF: SECOS; PARAM2: 800V; PARAM: 1.5A; MANF_P#: DB156; VALUE: DB156
footprint DBRG_DIP (BRDIGE RECTIFIER, pitch: 5.08mm, 8X5mm)
pins: 1 DCOUT+, 2 DCOUT-, 3 ACIN2, 4 ACIN1

## DIODE_THD_BRIDGE_DB157
designator DB?, comment DB157
DIODE, BRIDGE,; MANF: SECOS; PARAM2: 1000V; PARAM: 1.5A; MANF_P#: DB157; VALUE: DB157
footprint DBRG_DIP (BRDIGE RECTIFIER, pitch: 5.08mm, 8X5mm)
pins: 1 DCOUT+, 2 DCOUT-, 3 ACIN2, 4 ACIN1

## DIODE_THD_BRIDGE_KBU810
designator DB?, comment 8A, 600V
DIODE, BRIDGE, 8A, 600V; VALUE: 8A, 600V
footprint DBRG_23X7 (BRDIGE RECTIFIER, KBU 810 pitch: 5.08mm, 23X7X19mm)
pins: 1 -DC, 2 AC1, 3 AC2, 4 +DC

## DIODE_THD_BRIDGE_RECT_DFM
designator DB?, comment DFM
DIODE, BRIDGE,; VALUE: DFM
footprint DBRG_DIP (BRDIGE RECTIFIER, pitch: 5.08mm, 8X5mm)
pins: 1 DCOUT+, 2 DCOUT-, 3 ACIN2, 4 ACIN1

## DIODE_THD_BRIDGE_WO
designator DB?, comment BR-WOB
DIODE, BRIDGE,; VALUE: BR-WOB
footprint DBRG_C10 (BRDIGE RECTIFIER, WOB WOG, pitch: 5.08mm, 10X10mm)
pins: 1 +DC, 2 AC1, 3 -DC, 4 AC2

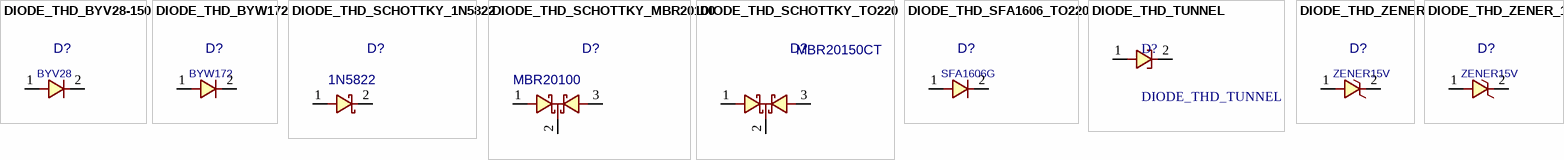
[diagram p3: symbols DIODE_THD_BYV28-150 to DIODE_THD_ZENER_1W]

## DIODE_THD_BYV28-150
designator D?, comment BYV28
DIODE, FAST; MANF: VISHAY; DESC: DESCRIPTION; PARAM: 3.5A, -55~175oC; PARAM2: 150V; MANF_P#: BYV28-150; ASSEMBLY: ASSEMBLY; PRICE: 1.1$; VALUE: BYV28
footprint D_AX06_SOD64 (DIODE 0.6 INCH SPACING SOD-64)
pins: 1, 2

## DIODE_THD_BYW172
designator D?, comment BYW172
DIODE, FAST; MANF: VISHAY; DESC: DESCRIPTION; PARAM: 200V; PARAM2: 3A; ASSEMBLY: ASSEMBLY; PRICE: PRICE; MANF_P#: BYW172; VALUE: BYW172
footprint D_AX06_SOD64 (DIODE 0.6 INCH SPACING SOD-64)
pins: 1, 2

## DIODE_THD_SCHOTTKY_1N5822
designator D?, comment 1N5822
DIODE, SCHOTTKY, 40V, 3A; MANF: Diodes; DESC: DESCRIPTION; MANF_P#: 1N5822; ASSEMBLY: ASSEMBLY; PRICE: PRICE; PARAM2: 3A; PARAM: 40V; VALUE: 1N5822
footprint D_AX06_DO27 (A-500 (Vishay)  DO201A DO-27)
pins: 1 A, 2 K

## DIODE_THD_SCHOTTKY_MBR20100
designator D?, comment MBR20100
DIODE, SCHOTTKY, DUAL, 100V, 20A; MANF: Diodes; DESC: DESCRIPTION; MANF_P#: MBR20100; ASSEMBLY: ASSEMBLY; PRICE: PRICE; PARAM2: 100V; PARAM: 20A; VALUE: MBR20100
footprint TO220_3 (TO-220 3 LEAD, TO-262, pitch: 2.54mm  10x4.5mm)
pins: 1, 2, 3

## DIODE_THD_SCHOTTKY_TO220
designator D?, comment MBR20150CT
DIODE, SCHOTTKY, 2x Common Cathode; MANF: ON; DESC: DESCRIPTION; MANF_P#: -; ASSEMBLY: ASSEMBLY; PRICE: 1$; PARAM2: -; PARAM: -; VALUE: MBR20150CT
footprint TO220_3 (TO-220 3 LEAD, TO-262, pitch: 2.54mm  10x4.5mm)
pins: 1 A1, 2 CATHODE, 3 A3

## DIODE_THD_SFA1606_TO220
designator D?, comment SFA1606G
DIODE, GENERAL PURPOSE, 400V/16A; DESC: DESCRIPTION; PARAM: 16A; PARAM2: 400V; ASSEMBLY: ASSEMBLY; PRICE: PRICE; MANF_P#: SFA1606G; VALUE: SFA1606G
footprint TO220_2
pins: 1, 2

## DIODE_THD_TUNNEL
designator D?
DIODE, THD, TUNNEL or PIN diode; MANF_P#: BA479G-TR; MANF: Vishay
footprint D_AX03_DO35
pins: 1, 2

## DIODE_THD_ZENER
designator D?, comment ZENER15V
DIODE, ZENER, 0.2W, 15V; MANF: Diodes; DESC: DESCRIPTION; ASSEMBLY: ASSEMBLY; PRICE: PRICE; PARAM2: 0.2W; PARAM: 15V; MANF_P#: ZENER15V; VALUE: ZENER15V
footprint D_AX04_DO41 (DO-41)
footprint D_AX02_DO35 (DIODE 0.2 INCH SPACING DO-35)
footprint D_AX03_DO35
pins: 1, 2

## DIODE_THD_ZENER_1W
designator D?, comment ZENER15V
DIODE, ZENER, 1W; MANF: Diodes; DESC: DESCRIPTION; PARAM2: 0.2W; PARAM: 15V; ASSEMBLY: ASSEMBLY; PRICE: PRICE; MANF_P#: ZENER15V; VALUE: ZENER15V
footprint D_AX03_1W (DIODE 0.3 INCH SPACING 1W)
pins: 1, 2